# Altium schematic symbol library ROM.SchLib: 8 symbols
Pins are listed as number, name and electrical type; pins without a type are passive.

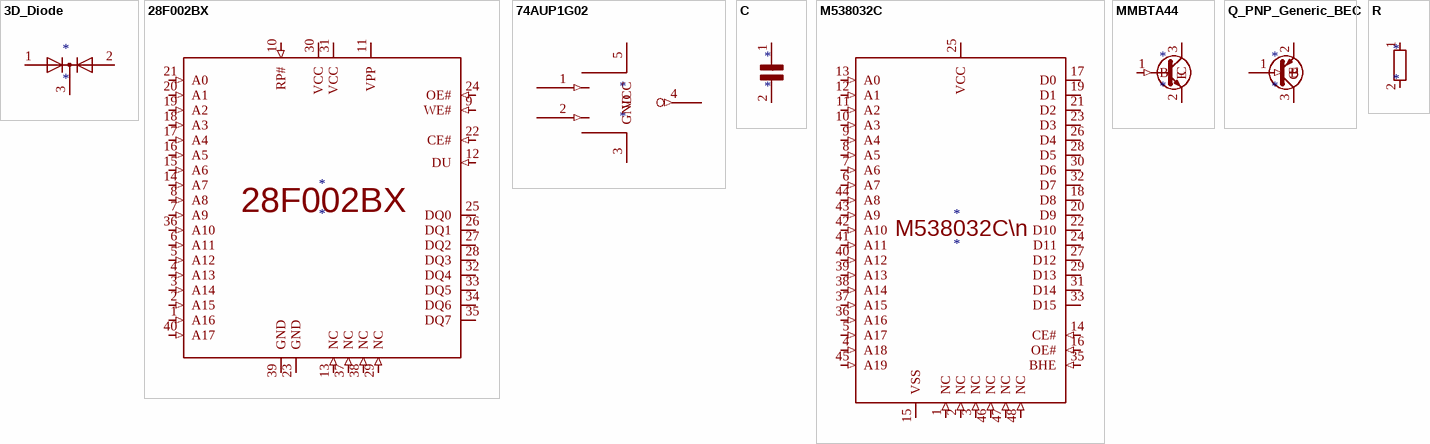
[diagram p0: symbols 3D_Diode to R]

## 3D_Diode
designator *
pins: 1, 2, 3

## 28F002BX
designator *
pins: 1 A16 (in), 2 A15 (in), 3 A14 (in), 4 A13 (in), 5 A12 (in), 6 A11 (in), 7 A9 (in), 8 A8 (in), 9 WE# (in), 10 RP# (in), 11 VPP (power), 12 DU (in), 13 NC (in), 14 A7 (in), 15 A6 (in), 16 A5 (in), 17 A4 (in), 18 A3 (in), 19 A2 (in), 20 A1 (in), 21 A0 (in), 22 CE# (in), 23 GND (power), 24 OE# (in), 25 DQ0 (io), 26 DQ1 (io), 27 DQ2 (io), 28 DQ3 (io), 29 NC (in), 30 VCC (power), 31 VCC (power), 32 DQ4 (io), 33 DQ5 (io), 34 DQ6 (io), 35 DQ7 (io), 36 A10 (in), 37 NC (in), 38 NC (in), 39 GND (power), 40 A17 (in)

## 74AUP1G02
designator *
pins: 1 (in), 2 (in), 3 GND (power), 4 (out), 5 VCC (power)

## C
designator *
pins: 1 +, 2 -
1 alternate drawing of the same symbol

## M538032C
designator *
pins: 1 NC (in), 2 NC (in), 3 NC (in), 4 A18 (in), 5 A17 (in), 6 A7 (in), 7 A6 (in), 8 A5 (in), 9 A4 (in), 10 A3 (in), 11 A2 (in), 12 A1 (in), 13 A0 (in), 14 CE# (in), 15 VSS (power), 16 OE# (in), 17 D0 (io), 18 D8 (io), 19 D1 (io), 20 D9 (io), 21 D2 (io), 22 D10 (io), 23 D3 (io), 24 D11 (io), 25 VCC (power), 26 D4 (io), 27 D12 (io), 28 D5 (io), 29 D13 (io), 30 D6 (io), 31 D14 (io), 32 D7 (io), 33 D15 (io), 35 BHE (in), 36 A16 (in), 37 A15 (in), 38 A14 (in), 39 A13 (in), 40 A12 (in), 41 A11 (in), 42 A10 (in), 43 A9 (in), 44 A8 (in), 45 A19 (in), 46 NC (in), 47 NC (in), 48 NC (in)
text: M538032C\n

## MMBTA44
designator *
pins: 1 B (in), 2 E, 3 C

## Q_PNP_Generic_BEC
designator *
pins: 1 B (in), 2 E, 3 C

## R
designator *
pins: 1, 2